# Altium footprint library la_pcb_lib_old.PcbLib: 1 footprints
Each footprint in its own frame and in the unit in brackets; x right, y up, seen from the top. Pads: shape width x height; smd on the part's side, far side on the other; paste and mask are expansions set on the pad; w line width, h text height; cw(c..) or ccw(c..) is an arc to the next point about the centre after c.
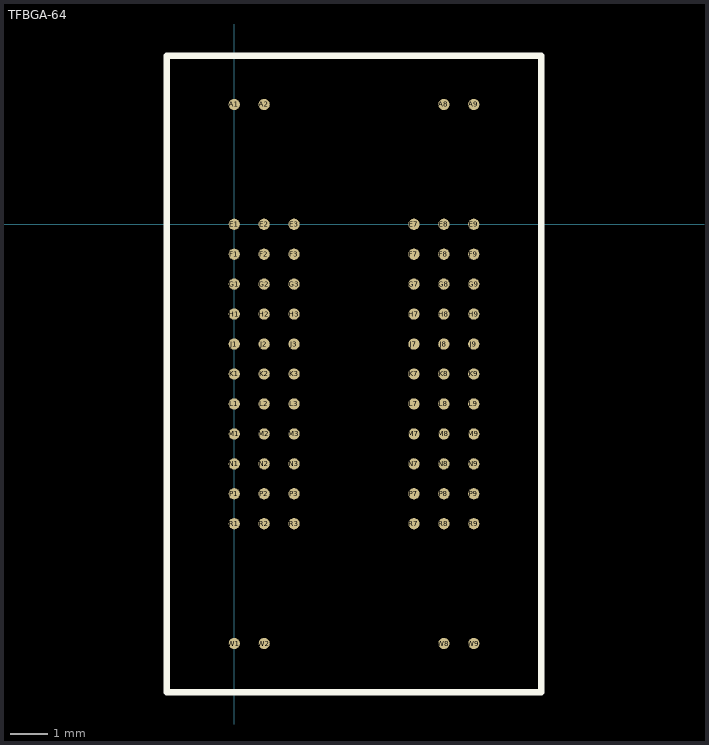
[diagram p0: the footprint, top view; thin cyan lines are the x and y axes]

## TFBGA-64 [mm]
pads (74):
  round 0.3 smd: A1(0,3.2) A2(0.8,3.2) A8(5.6,3.2) A9(6.4,3.2) E1(0,0) E2(0.8,0) E3(1.6,0) E7(4.8,0) E8(5.6,0) E9(6.4,0) F1(0,-0.8) F2(0.8,-0.8) F3(1.6,-0.8) F7(4.8,-0.8) F8(5.6,-0.8) F9(6.4,-0.8) G1(0,-1.6) G2(0.8,-1.6) G3(1.6,-1.6) G7(4.8,-1.6) G8(5.6,-1.6) G9(6.4,-1.6) H1(0,-2.4) H2(0.8,-2.4) H3(1.6,-2.4) H7(4.8,-2.4) H8(5.6,-2.4) H9(6.4,-2.4) J1(0,-3.2) J2(0.8,-3.2) J3(1.6,-3.2) J7(4.8,-3.2) J8(5.6,-3.2) J9(6.4,-3.2) K1(0,-4) K2(0.8,-4) K3(1.6,-4) K7(4.8,-4) K8(5.6,-4) K9(6.4,-4) L1(0,-4.8) L2(0.8,-4.8) L3(1.6,-4.8) L7(4.8,-4.8) L8(5.6,-4.8) L9(6.4,-4.8) M1(0,-5.6) M2(0.8,-5.6) M3(1.6,-5.6) M7(4.8,-5.6) M8(5.6,-5.6) M9(6.4,-5.6) N1(0,-6.4) N2(0.8,-6.4) N3(1.6,-6.4) N7(4.8,-6.4) N8(5.6,-6.4) N9(6.4,-6.4) P1(0,-7.2) P2(0.8,-7.2) P3(1.6,-7.2) P7(4.8,-7.2) P8(5.6,-7.2) P9(6.4,-7.2) R1(0,-8) R2(0.8,-8) R3(1.6,-8) R7(4.8,-8) R8(5.6,-8) R9(6.4,-8) W1(0,-11.2) W2(0.8,-11.2) W8(5.6,-11.2) W9(6.4,-11.2)
Top Overlay:
  lines w0.178: -1.8,-12.5 8.2,-12.5 8.2,4.5 -1.8,4.5 -1.8,-12.5